# Altium footprint library Analog Device DAC.PcbLib: 1 footprints
Each footprint in its own frame and in the unit in brackets; x right, y up, seen from the top. Pads: shape width x height; smd on the part's side, far side on the other; paste and mask are expansions set on the pad; w line width, h text height; cw(c..) or ccw(c..) is an arc to the next point about the centre after c.
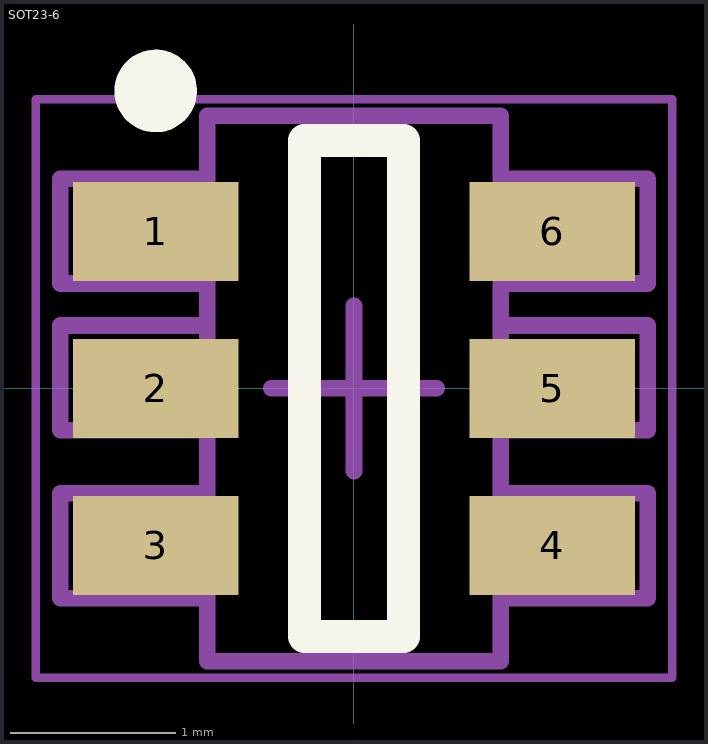
[diagram p0: the footprint, top view; thin cyan lines are the x and y axes]

## SOT23-6 [mm] "SOT23, 5-Leads, Body 2.90x2.45mm, Pitch 0.95mm, IPC Medium Density"
height 1.1
pads (6):
  rect 1x0.6 smd: 1(-1.2,0.95) 2(-1.2,0) 3(-1.2,-0.95) 4(1.2,-0.95) 5(1.2,0) 6(1.2,0.95)
Top Overlay:
  circle w0.25: c-1.2,1.8 r0.125
  lines w0.2: -0.3,-1.5 -0.3,1.5 0.3,1.5 0.3,-1.5 -0.3,-1.5
Mechanical 13:
  lines w0.1: -0.889,-1.27 -1.778,-1.27 -1.778,-0.635 -0.889,-0.635 ; -0.889,-0.254 -1.778,-0.254 -1.778,0.381 -0.889,0.381 ; -0.889,0.635 -1.778,0.635 -1.778,1.27 -0.889,1.27 ; 0.889,-1.27 1.778,-1.27 1.778,-0.635 0.889,-0.635 ; 0.889,-0.254 1.778,-0.254 1.778,0.381 0.889,0.381 ; 0.889,0.635 1.778,0.635 1.778,1.27 0.889,1.27 ; -0.889,-1.651 0.889,-1.651 0.889,1.651 -0.889,1.651 -0.889,-1.651
  text ".Designator" at 0.254,-1.27 h0.6
  text "1" at -1.524,1.524 h0.6
Mechanical 15:
  lines w0.05: -1.925,-1.75 1.925,-1.75 1.925,1.75 -1.925,1.75 -1.925,-1.75
  lines w0.1: -0.5,0 0.5,0 ; 0,-0.5 0,0.5
3D body "SOT23-5.STEP": height 1.24, standoff 0.14, extent -1.397,-1.45 1.403,1.45